# EAGLE library part W25Q32JVDAIQ (library W25Q32JVDAIQ)
NOR Flash spiFlash, 32M-bit, DTR, 4Kb Uniform Sector Source: Datasheet <https://mouser.componentsearchengine.com/Datasheets/1/W25Q32JVDAIQ.pdf>
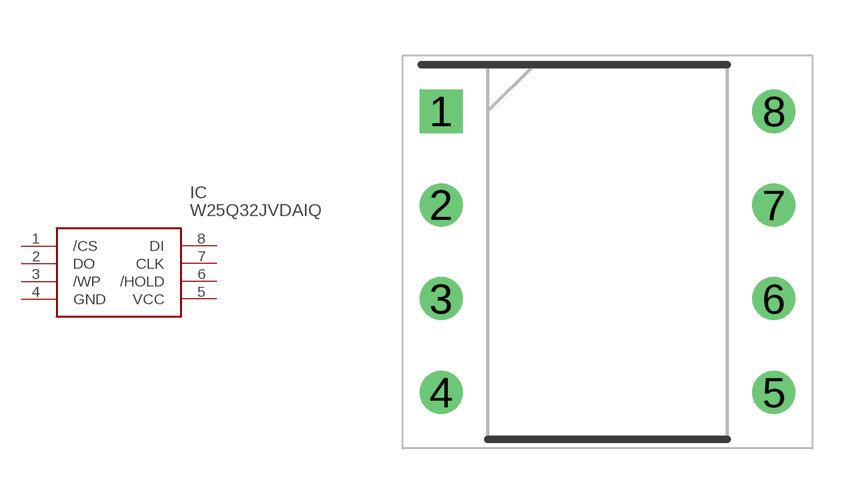
[diagram p0: symbol with the pads of DIP902W46P254L959H533Q8N; footprint DIP902W46P254L959H533Q8N]

Designator prefix IC

## W25Q32JVDAIQ (Description: NOR Flash spiFlash, 32M-bit, DTR, 4Kb Uniform Sector; Height: 5.33mm; Manufacturer_Name: Winbond; Manufacturer_Part_Number: W25Q32JVDAIQ)  [DIP902W46P254L959H533Q8N]
1  /CS  in
2  DO
3  /WP
4  GND  pwr
5  VCC
6  /HOLD  in
7  CLK
8  DI  pwr

## Footprint DIP902W46P254L959H533Q8N (pad centres in mm)
8-Pin PDIP 300-mil
drill 0.66 pad 1.06 square: 1 -4.51,3.81
drill 0.66 pad 1.06: 2 -4.51,1.27; 3 -4.51,-1.27; 4 -4.51,-3.81; 5 4.51,-3.81; 6 4.51,-1.27; 7 4.51,1.27; 8 4.51,3.81